# Altium footprint library 5055670671.PcbLib: 1 footprints
Each footprint in its own frame and in the unit in brackets; x right, y up, seen from the top. Pads: shape width x height; smd on the part's side, far side on the other; paste and mask are expansions set on the pad; w line width, h text height; cw(c..) or ccw(c..) is an arc to the next point about the centre after c.
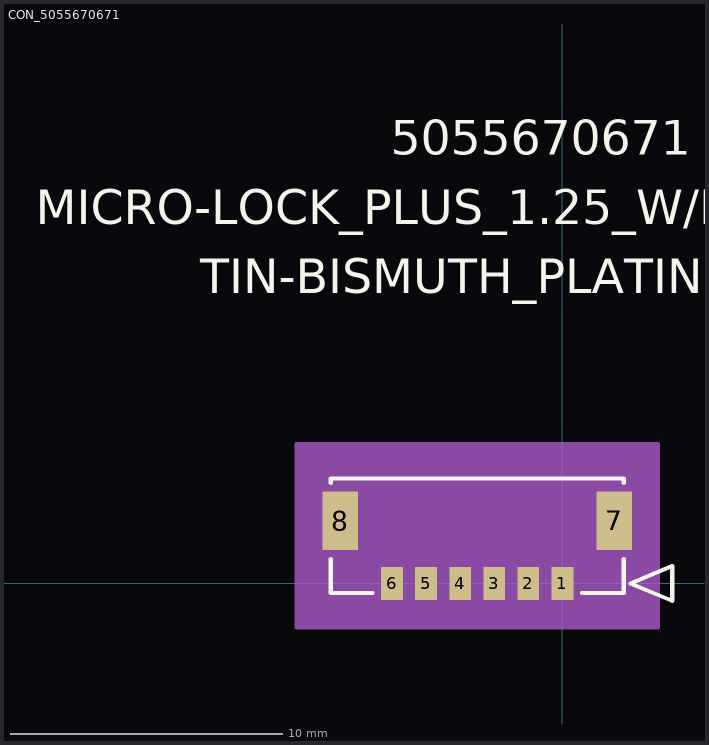
[diagram p0: the footprint, top view; thin cyan lines are the x and y axes]

## CON_5055670671 [mm]
pads (8):
  rect 0.8x1.2 smd paste+0 mask+0.076: 1(0,0) 2(-1.25,0) 3(-2.5,0) 4(-3.75,0) 5(-5,0) 6(-6.25,0)
  rect 1.3x2.15 smd paste+0 mask+0.076: 7(1.9,2.295) 8(-8.15,2.295)
Top Overlay:
  lines w0.152: -8.5,0.9 -8.5,-0.35 -6.97,-0.35 ; -8.5,3.69 -8.5,3.85 2.25,3.85 2.25,3.69 ; 0.72,-0.35 2.25,-0.35 2.25,0.9 ; 2.504,0 4.028,0.635 4.028,-0.635 2.504,0
  text "5055670671" at -6.3,15.72 h1.27
  text "MICRO-LOCK_PLUS_1.25_W/B_SR_RA_SMT_PLUG_ASSY_-6_CKT" at -19.318,13.18 h1.27
  text "TIN-BISMUTH_PLATING,_BLACK_COLOR" at -13.285,10.64 h1.27
Mechanical 3:
  text "NOTE" at -8.5,-5.04 h1.27
  text "RECOMMENDED_PCB_THICKNESS:_1.6_MM" at -8.5,-7.58 h1.27
  text "MAXIMUM_PACKAGE_HEIGHT:_3.9_MM" at -8.5,-10.12 h1.27
Mechanical 10:
  text "NOTE" at -8.5,-5.04 h1.27
  text "RECOMMENDED_PCB_THICKNESS:_1.6_MM" at -8.5,-7.58 h1.27
  text "MAXIMUM_PACKAGE_HEIGHT:_3.9_MM" at -8.5,-10.12 h1.27
Mechanical 13:
  lines w0.127: -8.5,-0.35 2.25,-0.35 2.25,3.85 -8.5,3.85 -8.5,-0.35 ; 2.504,0 4.028,0.635 4.028,-0.635 2.504,0
  text "5055670671" at -6.3,15.72 h1.27
  text "MICRO-LOCK_PLUS_1.25_W/B_SR_RA_SMT_PLUG_ASSY_-6_CKT" at -19.318,13.18 h1.27
  text "TIN-BISMUTH_PLATING,_BLACK_COLOR" at -13.285,10.64 h1.27
Mechanical 15:
  region: 3.52,5.12 -9.77,5.12 -9.77,-1.62 3.52,-1.62
  lines w0.127: -9.77,-1.62 -9.77,5.12 3.52,5.12 3.52,-1.62 -9.77,-1.62